# Altium schematic symbol library uC.SCHLIB: 18 symbols
Pins are listed as number, name and electrical type; pins without a type are passive.

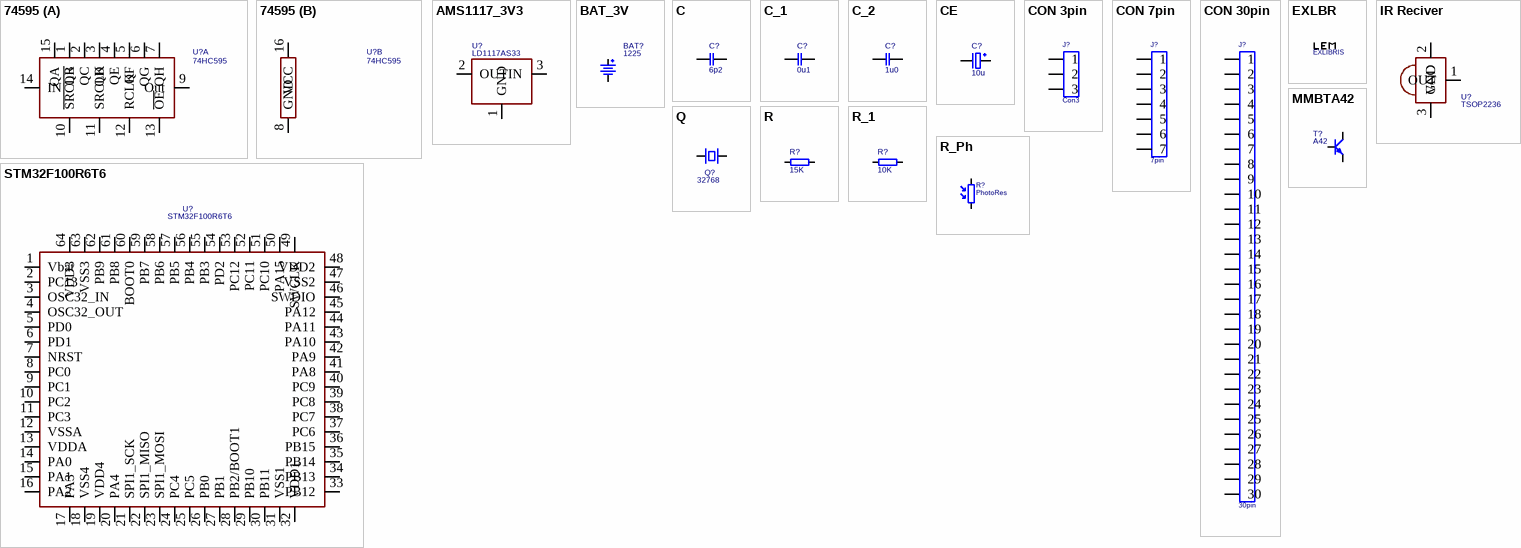
[diagram p0: symbols 74595 to STM32F100R6T6]

## 74595
designator U?, comment 74HC595
8-bit shift registers with 3-state output
footprint SO-16_150 (SO-16, 150mil wide)
footprint SO-16_300 (SO-16, 300mils wide)
part A pins: 1 QB, 2 QC, 3 QD, 4 QE, 5 QF, 6 QG, 7 QH, 9 Out, 10 ~{SRCLR}, 11 SRCLK, 12 RCLK, 13 ~{OE}, 14 IN, 15 QA
part B pins: 8 GND (power) "Negative Power Supply", 16 VCC "Positive Power Supply"

## AMS1117_3V3
designator U?, comment LD1117AS33
footprint SOT-223_3 (SOT-223 3 pin)
footprint SOT-223 (SOT-223 reference pattern layout)
pins: 1 GND, 2 OUT, 3 IN

## BAT_3V
designator BAT?, comment 1225
Bateria Litowa 3V
footprint SMTU-1225 (Battery holder for 1225 cell battery)
pins: 1 +, 2 -

## C
designator C?, comment 6p2
Kondensator monolityczny
footprint C_R100_W175_H200_220 (Kondes. Ceramiczny dyskowy)
footprint C_R200_W180_H130_102 (Capacitor 1.0nF)
footprint C_R200_W300_H250__102 (Capacitor 1.0nF)
footprint C_R200_W300_H250__104 (Capacitor u10)
footprint C_R400_L250_D100__104_Axial (Capacitor Axial 100 nF)
footprint SMD_C_0805 (Kondensator SMD rozmiar 0805)
footprint SMD_RC_MELF (Rozmiar MELF)
footprint SMD_RC_1206 (Rozmiar 1206 -> 120x60mils)
footprint SMD_C_1210 (Obudowa SMD 1210  for Reflow soldering)
footprint C_R600_700x200x430 (X2 - 310V)
footprint C_SMD_0603 (Metric Size - 1608)
footprint C_SMD_0805 (Metric Size - 2012)
pins: 1 "EL. Cap Negative pin", 2 "EL. Cap Negative pin"

## C_1
designator C?, comment 0u1
Kondensator monolityczny
footprint C_R100_W175_H200_220 (Kondes. Ceramiczny dyskowy)
footprint C_R200_W180_H130_102 (Capacitor 1.0nF)
footprint C_R200_W300_H250__102 (Capacitor 1.0nF)
footprint C_R200_W300_H250__104 (Capacitor u10)
footprint C_R400_L250_D100__104_Axial (Capacitor Axial 100 nF)
footprint SMD_C_0805 (Kondensator SMD rozmiar 0805)
footprint SMD_RC_MELF (Rozmiar MELF)
footprint SMD_RC_1206 (Rozmiar 1206 -> 120x60mils)
footprint SMD_C_1210 (Obudowa SMD 1210  for Reflow soldering)
footprint C_R600_700x200x430 (X2 - 310V)
footprint C_SMD_0603 (Metric Size - 1608)
footprint C_SMD_0603 (Metric Size - 1608)
pins: 1 "EL. Cap Negative pin", 2 "EL. Cap Negative pin"

## C_2
designator C?, comment 1u0
Kondensator monolityczny
footprint C_R100_W175_H200_220 (Kondes. Ceramiczny dyskowy)
footprint C_R200_W180_H130_102 (Capacitor 1.0nF)
footprint C_R200_W300_H250__102 (Capacitor 1.0nF)
footprint C_R200_W300_H250__104 (Capacitor u10)
footprint C_R400_L250_D100__104_Axial (Capacitor Axial 100 nF)
footprint SMD_C_0805 (Kondensator SMD rozmiar 0805)
footprint SMD_RC_MELF (Rozmiar MELF)
footprint SMD_RC_1206 (Rozmiar 1206 -> 120x60mils)
footprint SMD_C_1210 (Obudowa SMD 1210  for Reflow soldering)
footprint C_R600_700x200x430 (X2 - 310V)
footprint RC0805 (SMD RC 0805 FOOTPRINT)
footprint C_SMD_0603 (Metric Size - 1608)
footprint C_SMD_0805 (Metric Size - 2012)
pins: 1 "EL. Cap Negative pin", 2 "EL. Cap Negative pin"

## CE
designator C?, comment 10u
Kondensator elektrolityczny
footprint CE_R100_D200_H460 (Raster=100mils, Diam=200mils, Hight=460mils)
footprint CE_R200_D400_H400 (Raster=200mils, Dia=400mils_Hight=400mils)
footprint CE_R300_D650_H1000 (Raster=300mils, Dia=650mils, Hight=1000)
footprint CE_R400_D720_H1600 (Raster=400mils, Dia=720mils, Hight=1600mils)
footprint CE_R400_D720_H1600_Horizontal
footprint CE_R530_D1000_H1750 (Raster=530mils, Dia=1000mils, Hight=1750mils)
footprint SMA_3216_18 (Obudowa C Tantal rozmiar SMA)
footprint SMB_3528_21 (Obudowa C Tantal rozmiar SMB)
footprint SMC_6032_28 (Obudowa C Tantal rozmiar SMC)
footprint SMD_7343_31 (Obudowa C Tantal rozmiar SMD)
footprint SMD_TC_E (Rozmiar SMD_E (kondensator tantalowy))
footprint SMD_TC_V (Rozmiar SMD_V (kondensator tantalowy))
footprint CE_R100_L460_H200 (Raster=100, Lenght=460, Hight=200 - Poziomy)
footprint CEA_R1350_D475 (CE Axial raster=1350mil, diameter=475mil)
footprint SMD_ALU_10x10 (SMD Aluminiowy Średnica 10mm wysokość 10mm)
footprint CE_R200_D550_H850 (Raster=200; Diameter=550; Hight=850)
footprint CE_R150_D320_H570 (Raster=150mils, Dia=320mils, H=570mils)
footprint CE_R200_D550_H850_H (Horizontal)
footprint Model Name (Footprint not found)
footprint CE_T_SMC_6032_28 (Tantalum Cap Housing SMC type)
pins: 1 - "EL. Cap Negative pin", 2 + "EL. Cap Negative pin"

## CON 3pin
designator J?, comment Con3
Connector 3pin
footprint Barier Conn - 3pin (Barier Conector 3pin - 25A 1000V)
footprint ARK_5.0_3PIN (ARK Screw Connector 3PINs)
footprint ARK_3.5_3PIN (Złacze ARK raster 3.5mm 3 pin)
footprint TE_147323-2 (AMPMODU MTE 3pin)
pins: 1, 2, 3

## CON 7pin
designator J?, comment 7pin
Connector 7pin
footprint SIL7_GP_V (Goldpin pionowy 7 pin)
footprint ARK_5.0_7PIN (ARK Screw Connector 7PINs)
footprint SIL7_SMD_Horizontal (TSM10702LSH)
pins: 1, 2, 3, 4, 5, 6, 7

## CON 30pin
designator J?, comment 30pin
footprint SIL30 (Obudowa serial 30 pin)
pins: 1, 2, 3, 4, 5, 6, 7, 8, 9, 10, 11, 12, 13, 14, 15, 16, 17, 18, 19, 20, 21, 22, 23, 24, 25, 26, 27, 28, 29, 30

## EXLBR
designator EXLIBRIS?, comment EXLIBRIS
footprint EXLBS_1 (Exlibris - LeM - TOP Overlay Hight = 180mil)
footprint EXLBS_2 (Exlibris TOP Layer Hight = 180mil)
footprint EXLIBS_3 (Exlibris Hight = 120mil)

## IR Reciver
designator U?, comment TSOP2236
footprint TSOP-2236 (IR Receiver Modules for Remote Control)
pins: 1 OUT, 2 VCC, 3 GND

## MMBTA42
designator T?, comment A42
High Voltage NPN transistor
footprint SOT-23 - Basic (Small Outline Transistor package)
pins: 1 Base, 2 Emitter, 3 Collector

## Q
designator Q?, comment 32768
Rezonator kwarcowy
footprint Xtal_1 (Rezonator kwarcowy)
footprint GSX-200 (Quartz 32768 - GSX-200)
footprint XTAL_3 (ABS25 Series - Land Pattern)
pins: 1, 2

## R
designator R?, comment 15K
Resistor
footprint SMD_R_0805 (Rozmiar 0805 -> 80x50mil)
footprint SMD_R_MMELF (Rozmiar Mini Melf)
footprint R_400 (Resistor - raster 400mils (0.125W))
footprint R_300_0.125W (Resistor raster 300mils (0.125W))
footprint R_300_0.1W (Res. raster 300mils (0.1W))
footprint SMR_3W (Rezystor SMD serii SMR - R100; 1%; 3W)
footprint Caddok_MP915 (Rezystor Caddok TO-126)
footprint R_600_1W (Rezystor mocy 1W)
footprint R_SMD_0603
pins: 1 "EL. Cap Negative pin", 2 "EL. Cap Negative pin"

## R_1
designator R?, comment 10K
Resistor
footprint SMD_R_0805 (Rozmiar 0805 -> 80x50mil)
footprint SMD_R_MMELF (Rozmiar Mini Melf)
footprint R_400 (Resistor - raster 400mils (0.125W))
footprint R_300_0.125W (Resistor raster 300mils (0.125W))
footprint R_300_0.1W (Res. raster 300mils (0.1W))
footprint SMR_3W (Rezystor SMD serii SMR - R100; 1%; 3W)
footprint Caddok_MP915 (Rezystor Caddok TO-126)
footprint R_600_1W (Rezystor mocy 1W)
footprint R_SMD_0603
pins: 1 "EL. Cap Negative pin", 2 "EL. Cap Negative pin"

## R_Ph
designator R?, comment PhotoRes
Photo resistor
footprint R_Photo_V (Photoresistor Dia=5mm Vertical)
pins: 1 - "EL. Cap Negative pin", 2 + "EL. Cap Negative pin"

## STM32F100R6T6
designator U?
footprint LQFP-674 (LQFP64 – 10 x 10 mm 64 pin low-profile quad flat package)
pins: 1 Vbat, 2 PC13, 3 OSC32_IN, 4 OSC32_OUT, 5 PD0, 6 PD1, 7 NRST, 8 PC0, 9 PC1, 10 PC2, 11 PC3, 12 VSSA, 13 VDDA, 14 PA0, 15 PA1, 16 PA2, 17 PA3, 18 VSS4, 19 VDD4, 20 PA4, 21 SPI1_SCK, 22 SPI1_MISO, 23 SPI1_MOSI, 24 PC4, 25 PC5, 26 PB0, 27 PB1, 28 PB2/BOOT1, 29 PB10, 30 PB11, 31 VSS1, 32 VDD1, 33 PB12, 34 PB13, 35 PB14, 36 PB15, 37 PC6, 38 PC7, 39 PC8, 40 PC9, 41 PA8, 42 PA9, 43 PA10, 44 PA11, 45 PA12, 46 SWDIO, 47 VSS2, 48 VDD2, 49 SWCLK, 50 PA15, 51 PC10, 52 PC11, 53 PC12, 54 PD2, 55 PB3, 56 PB4, 57 PB5, 58 PB6, 59 PB7, 60 BOOT0, 61 PB8, 62 PB9, 63 VSS3, 64 VDD3